# Altium footprint library myPCBLib.PcbLib: 4 footprints
Each footprint in its own frame and in the unit in brackets; x right, y up, seen from the top. Pads: shape width x height; smd on the part's side, far side on the other; paste and mask are expansions set on the pad; w line width, h text height; cw(c..) or ccw(c..) is an arc to the next point about the centre after c.
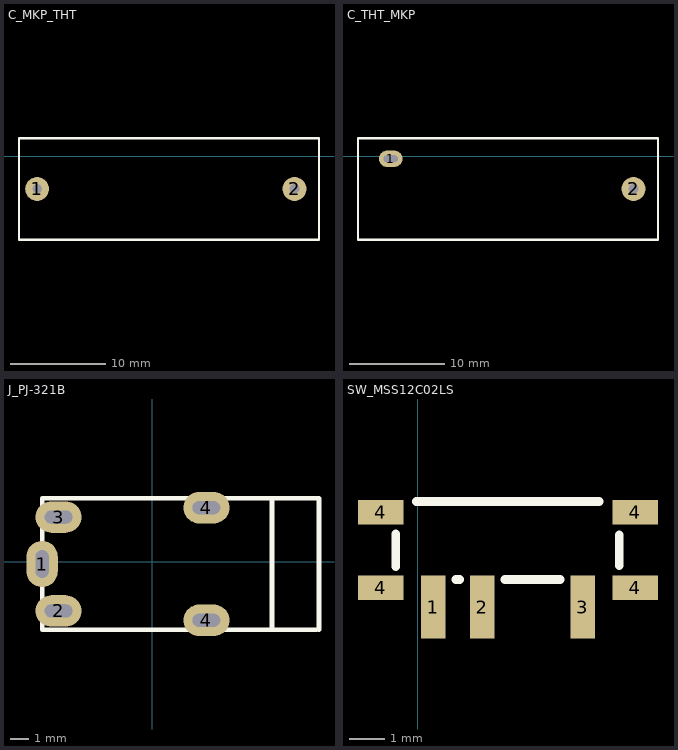
[diagram p0: the footprints below, top view; thin cyan lines are the x and y axes]

## C_MKP_THT [mm] "pins distance: 27"
pads (2):
  round 2.5 hole 1: 1(-553.72,-3.427) 2(-526.701,-3.427)
Top Overlay:
  lines w0.254: -555.625,-8.763 -524.129,-8.763 ; -555.625,-8.761 -555.625,1.905 -524.129,1.905 -524.129,-8.761

## C_THT_MKP [mm] "pins distance: 27"
pads (2):
  oval 2.5x1.7 hole 0.7 slot 1.5 at 0 deg: 1(-552.196,-0.254)
  round 2.5 hole 1: 2(-526.701,-3.427)
Top Overlay:
  lines w0.254: -555.625,-8.763 -524.129,-8.763 ; -555.625,-8.761 -555.625,1.905 -524.129,1.905 -524.129,-8.761

## J_PJ-321B [mm]
pads (5):
  oval 1.7x2.5 hole 0.7 slot 1.5 at 90 deg: 1(-5.969,-0.127)
  oval 2.5x1.7 hole 0.7 slot 1.5 at 0 deg: 2(-5.08,-2.667) 3(-5.08,2.413) 4(2.921,-3.175) 4(2.921,2.921)
Top Overlay:
  lines w0.254: 8.89,-3.683 6.477,-3.683 ; 9.017,-3.683 9.017,3.429 6.477,3.429 ; 6.477,-3.683 6.477,3.429 ; 6.477,-3.683 -5.969,-3.683 -5.969,3.429 6.477,3.429

## SW_MSS12C02LS [mm]
pads (7):
  rect 0.7x1.8 smd: 1(0.443,-8.932) 2(1.843,-8.932) 3(4.73,-8.932)
  rect 1.3x0.7 smd: 4(-1.06,-6.215) 4(-1.056,-8.382) 4(6.23,-8.382) 4(6.23,-6.215)
Top Overlay:
  lines w0.254: -0.63,-7.775 -0.63,-6.835 ; -0.03,-5.91 5.19,-5.91 ; 1.1,-8.14 1.2,-8.14 ; 2.5,-8.14 4.07,-8.14 ; 5.77,-7.75 5.77,-6.86